# Altium footprint library MODULEs.PcbLib: 10 footprints (part 1 of 2)
Each footprint in its own frame and in the unit in brackets; x right, y up, seen from the top. Pads: shape width x height; smd on the part's side, far side on the other; paste and mask are expansions set on the pad; w line width, h text height; cw(c..) or ccw(c..) is an arc to the next point about the centre after c.
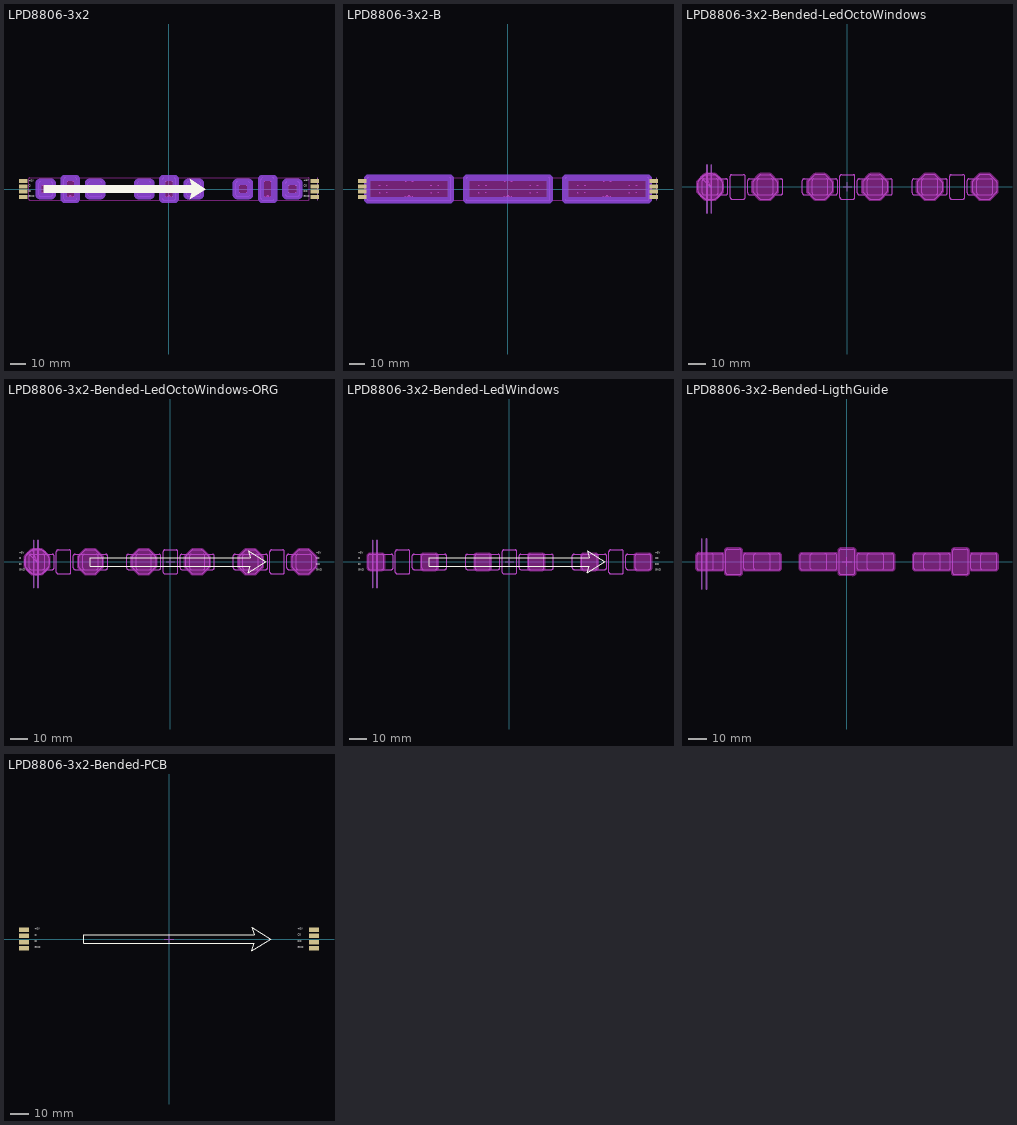
[diagram p0: the footprints below, top view; thin cyan lines are the x and y axes]

## LPD8806-3x2 [mm] "Digital Addressable RGB LED w/ PWM waterproof flexi strip - 3 modules of 2 LEDs"
pads (8):
  rect 5.5x2.5 smd: 1(-92.25,5) 2(-92.25,1.67) 3(-92.25,-1.67) 4(-92.25,-5) 5(92.25,-5) 6(92.25,-1.67) 7(92.25,1.67) 8(92.25,5)
Top Layer keep-out:
  lines w0.5: -88.8,-6.6 ccw(c-88.3,-6.6) -88.3,-7.1 88.3,-7.1 ccw(c88.3,-6.6) 88.8,-6.6 88.8,6.6 ccw(c88.3,6.6) 88.3,7.1 -88.3,7.1 ccw(c-88.3,6.6) -88.8,6.6 -88.8,-6.6
Bottom Layer keep-out:
  lines w4: -81.652,-4.498 -74.648,-4.498 ccw(c-74.648,-3.498) -73.648,-3.498 ; -81.652,4.498 -74.648,4.498 cw(c-74.648,3.498) -73.648,3.498 -73.648,-3.502 ; -81.648,-4.502 cw(c-81.648,-3.502) -82.648,-3.502 -82.648,3.502 cw(c-81.648,3.502) -81.648,4.502 ; -66.752,-5.998 ccw(c-65.752,-5.998) -65.752,-6.998 -59.246,-6.998 ; -66.75,6.001 cw(c-65.75,6.001) -65.75,7.001 -59.249,7.001 cw(c-59.249,6.001) -58.249,6.001 ; -66.746,-6.003 -66.746,6.005 ; -59.251,-7.002 ccw(c-59.251,-6.002) -58.251,-6.002 -58.251,6.004 ; -50.352,-4.498 -43.348,-4.498 ccw(c-43.348,-3.498) -42.348,-3.498 ; -50.352,4.498 -43.348,4.498 cw(c-43.348,3.498) -42.348,3.498 -42.348,-3.502 ; -50.348,-4.502 cw(c-50.348,-3.502) -51.348,-3.502 -51.348,3.502 cw(c-50.348,3.502) -50.348,4.502 ; -19.152,-4.498 -12.148,-4.498 ccw(c-12.148,-3.498) -11.148,-3.498 ; -19.152,4.498 -12.148,4.498 cw(c-12.148,3.498) -11.148,3.498 -11.148,-3.502 ; -19.148,-4.502 cw(c-19.148,-3.502) -20.148,-3.502 -20.148,3.502 cw(c-19.148,3.502) -19.148,4.502 ; -4.252,-5.997 ccw(c-3.252,-5.997) -3.252,-6.997 3.254,-6.997 ; -4.25,6.002 cw(c-3.25,6.002) -3.25,7.002 3.252,7.001 cw(c3.252,6.001) 4.252,6.001 ; -4.246,-6.003 -4.246,6.005 ; 3.249,-7.002 ccw(c3.249,-6.002) 4.249,-6.002 4.249,6.004 ; 12.148,-4.498 19.152,-4.498 ccw(c19.152,-3.498) 20.152,-3.498 ; 12.148,4.498 19.152,4.498 cw(c19.152,3.498) 20.152,3.498 20.152,-3.502 ; 12.152,-4.502 cw(c12.152,-3.502) 11.152,-3.502 11.152,3.502 cw(c12.152,3.502) 12.152,4.502 ; 43.348,-4.498 50.352,-4.498 ccw(c50.352,-3.498) 51.352,-3.498 ; 43.348,4.498 50.352,4.498 cw(c50.352,3.498) 51.352,3.498 51.352,-3.502 ; 43.352,-4.502 cw(c43.352,-3.502) 42.352,-3.502 42.352,3.502 cw(c43.352,3.502) 43.352,4.502 ; 58.248,-5.997 ccw(c59.248,-5.997) 59.248,-6.997 65.754,-6.997 ; 58.25,6.002 cw(c59.25,6.002) 59.25,7.002 65.752,7.001 cw(c65.752,6.001) 66.752,6.001 ; 58.254,-6.003 58.254,6.005 ; 65.749,-7.002 ccw(c65.749,-6.002) 66.749,-6.002 66.749,6.004 ; 74.648,-4.498 81.652,-4.498 ccw(c81.652,-3.498) 82.652,-3.498 ; 74.648,4.498 81.652,4.498 cw(c81.652,3.498) 82.652,3.498 82.652,-3.502 ; 74.652,-4.502 cw(c74.652,-3.502) 73.652,-3.502 73.652,3.502 cw(c74.652,3.502) 74.652,4.502
Top Overlay:
  region: -79.25,2.45 14.375,2.45 13,6.5 23.325,0 13,-6.5 14.375,-2.45 -79.25,-2.45
  text "GND" at 85.45,-5.55 h1.52
  text "DO" at 85.45,-2.22 h1.52
  text "CO" at 85.45,1.12 h1.52
  text "+5V" at 85.45,4.45 h1.52
  text "+5V" at -88.675,4.425 h1.52
  text "CI" at -88.675,1.095 h1.52
  text "DI" at -88.675,-2.245 h1.52
  text "GND" at -88.675,-5.575 h1.52
Keep-Out Layer:
  drawing of 9 lines, arcs and shapes, not listed
Outline:
  lines w0.1: -81.652,-4.498 -74.648,-4.498 ccw(c-74.648,-3.498) -73.648,-3.498 ; -81.652,4.498 -74.648,4.498 cw(c-74.648,3.498) -73.648,3.498 -73.648,-3.502 ; -81.648,-4.502 cw(c-81.648,-3.502) -82.648,-3.502 -82.648,3.502 cw(c-81.648,3.502) -81.648,4.502 ; -66.752,-5.998 ccw(c-65.752,-5.998) -65.752,-6.998 -59.246,-6.998 ; -66.75,6.001 cw(c-65.75,6.001) -65.75,7.001 -59.249,7.001 cw(c-59.249,6.001) -58.249,6.001 ; -66.746,-6.003 -66.746,6.005 ; -59.251,-7.002 ccw(c-59.251,-6.002) -58.251,-6.002 -58.251,6.004 ; -50.352,-4.498 -43.348,-4.498 ccw(c-43.348,-3.498) -42.348,-3.498 ; -50.352,4.498 -43.348,4.498 cw(c-43.348,3.498) -42.348,3.498 -42.348,-3.502 ; -50.348,-4.502 cw(c-50.348,-3.502) -51.348,-3.502 -51.348,3.502 cw(c-50.348,3.502) -50.348,4.502 ; -19.152,-4.498 -12.148,-4.498 ccw(c-12.148,-3.498) -11.148,-3.498 ; -19.152,4.498 -12.148,4.498 cw(c-12.148,3.498) -11.148,3.498 -11.148,-3.502 ; -19.148,-4.502 cw(c-19.148,-3.502) -20.148,-3.502 -20.148,3.502 cw(c-19.148,3.502) -19.148,4.502 ; -4.252,-5.997 ccw(c-3.252,-5.997) -3.252,-6.997 3.254,-6.997 ; -4.25,6.002 cw(c-3.25,6.002) -3.25,7.002 3.252,7.001 cw(c3.252,6.001) 4.252,6.001 ; -4.246,-6.003 -4.246,6.005 ; 3.249,-7.002 ccw(c3.249,-6.002) 4.249,-6.002 4.249,6.004 ; 12.148,-4.498 19.152,-4.498 ccw(c19.152,-3.498) 20.152,-3.498 ; 12.148,4.498 19.152,4.498 cw(c19.152,3.498) 20.152,3.498 20.152,-3.502 ; 12.152,-4.502 cw(c12.152,-3.502) 11.152,-3.502 11.152,3.502 cw(c12.152,3.502) 12.152,4.502 ; 43.348,-4.498 50.352,-4.498 ccw(c50.352,-3.498) 51.352,-3.498 ; 43.348,4.498 50.352,4.498 cw(c50.352,3.498) 51.352,3.498 51.352,-3.502 ; 43.352,-4.502 cw(c43.352,-3.502) 42.352,-3.502 42.352,3.502 cw(c43.352,3.502) 43.352,4.502 ; 58.248,-5.997 ccw(c59.248,-5.997) 59.248,-6.997 65.754,-6.997 ; 58.25,6.002 cw(c59.25,6.002) 59.25,7.002 65.752,7.001 cw(c65.752,6.001) 66.752,6.001 ; 58.254,-6.003 58.254,6.005 ; 65.749,-7.002 ccw(c65.749,-6.002) 66.749,-6.002 66.749,6.004 ; 74.648,-4.498 81.652,-4.498 ccw(c81.652,-3.498) 82.652,-3.498 ; 74.648,4.498 81.652,4.498 cw(c81.652,3.498) 82.652,3.498 82.652,-3.502 ; 74.652,-4.502 cw(c74.652,-3.502) 73.652,-3.502 73.652,3.502 cw(c74.652,3.502) 74.652,4.502
TopBody:
  lines w0.1: -63.6,-5 -63.199,-5 cw(c-62.5,-4.999) -61.801,-5 -61.4,-4.999 ; -1.1,-5 -0.7,-5 cw(c0,-5) 0.699,-5 1.1,-5 ; 61.4,-5 61.8,-5 cw(c62.5,-5) 63.199,-5 63.6,-5 ; 94.05,-7.05 94.05,7.05
  lines w0.2: -80.65,-1.95 -80.65,-2.499 -80.1,-2.499 ; -80.649,1.95 -80.65,2.499 -80.1,2.5 ; -76.2,-2.5 -76.2,-1.95 -75.651,-1.95 ; -76.2,2.499 -75.651,2.499 -75.65,1.95 ; -64.749,-4.45 -64.749,-4.999 -64.2,-5 ; -64.749,4.45 -64.749,4.999 -64.2,5 ; -60.8,-4.999 -60.251,-4.999 -60.25,-4.45 ; -60.8,4.999 -60.251,4.999 -60.25,4.45 ; -49.35,-1.95 -49.349,-2.499 -48.8,-2.499 ; -49.349,1.95 -49.349,2.5 -48.8,2.5 ; -44.9,-2.499 -44.9,-1.95 -44.351,-1.95 ; -44.9,2.5 -44.35,2.5 -44.35,1.95 ; -18.15,-1.95 -18.15,-2.5 -17.6,-2.5 ; -18.149,1.95 -18.15,2.499 -17.6,2.499 ; -13.7,-2.5 -13.7,-1.95 -13.151,-1.95 ; -13.7,2.499 -13.151,2.499 -13.15,1.95 ; -2.249,-4.45 -2.25,-5 -1.7,-5 ; -2.249,4.45 -2.25,4.999 -1.7,4.999 ; 1.7,-5 2.249,-5 2.25,-4.45 ; 1.7,4.999 2.249,4.999 2.25,4.45 ; 13.15,-1.95 13.151,-2.499 13.7,-2.499 ; 13.151,1.95 13.151,2.499 13.7,2.5 ; 17.6,-2.5 17.6,-1.95 18.149,-1.95 ; 17.6,2.499 18.15,2.499 18.15,1.95 ; 44.35,-1.95 44.35,-2.5 44.9,-2.5 ; 44.35,1.95 44.35,2.499 44.9,2.499 ; 48.8,-2.5 48.8,-1.95 49.349,-1.95 ; 48.8,2.499 49.349,2.499 49.349,1.95 ; 60.25,-4.45 60.25,-5 60.8,-5 ; 60.25,4.45 60.25,4.999 60.8,4.999 ; 64.2,-5 64.749,-5 64.749,-4.45 ; 64.2,4.999 64.749,4.999 64.749,4.45 ; 75.65,-1.95 75.65,-2.499 76.2,-2.499 ; 75.651,1.95 75.65,2.499 76.2,2.5 ; 80.1,-2.5 80.1,-1.95 80.649,-1.95 ; 80.1,2.499 80.649,2.499 80.65,1.95
3D body: height 0, standoff -1.6, extent 76.059,-2.09 80.24,2.09
3D body: height 0, standoff -1.59, extent 75.65,-2.499 80.649,2.499
3D body: height 0, standoff -1.59, extent 44.35,-2.5 49.349,2.499
3D body: height 0, standoff -1.6, extent 44.76,-2.09 48.94,2.09
3D body: height 0, standoff -1.6, extent 44.76,-2.09 48.94,2.09
3D body: height 0, standoff -1.59, extent 44.35,-2.5 49.349,2.499
3D body: height 0, standoff -1.6, extent -48.94,-2.09 -44.76,2.09
3D body: height 0, standoff -1.59, extent -49.349,-2.499 -44.35,2.5
3D body: height 0, standoff -1.59, extent -80.65,-2.499 -75.651,2.499
3D body: height 0, standoff -1.6, extent -80.24,-2.09 -76.06,2.09
3D body: height 0, standoff -1.6, extent -80.24,-2.09 -76.06,2.09
3D body: height 0, standoff -1.59, extent -80.65,-2.499 -75.651,2.499
3D body: height 0, standoff -1.8, extent -2.25,-5 2.249,4.999
3D body: height 0, standoff -1.59, extent -18.15,-2.5 -13.151,2.499
3D body: height 0, standoff -1.6, extent -17.74,-2.09 -13.56,2.09
3D body: height 0, standoff -1.6, extent -17.74,-2.09 -13.56,2.09
3D body: height 0, standoff -1.59, extent -18.15,-2.5 -13.151,2.499
3D body: height 0, standoff -1.59, extent 13.151,-2.499 18.15,2.499
3D body: height 0, standoff -1.2, extent -2.25,-5 2.249,4.999
3D body: height 0, standoff -1.8, extent 60.25,-5 64.749,4.999
3D body: height 0, standoff -1.2, extent 60.25,-5 64.749,4.999
3D body: height 0, standoff -1.2, extent -64.749,-4.999 -60.251,4.999
3D body: height 0, standoff -1.6, extent 13.56,-2.09 17.74,2.09
3D body: height 0.4, standoff 0.1, extent -94.05,-7.05 94.05,7.05
3D body: height 0, standoff -1.8, extent -64.749,-5 -60.251,4.999
3D body: height 0.1, standoff 0, extent -94.021,0.449 -89.579,2.881
3D body: height 0.1, standoff 0, extent -94.021,3.779 -89.579,6.211
3D body: height 0.1, standoff 0, extent -94.021,-2.891 -89.579,-0.459
3D body: height 0.1, standoff 0, extent -94.021,-6.221 -89.579,-3.789
3D body: height 0.5, standoff 0.4, extent -94.021,-6.221 -89.579,-3.789
3D body: height 0.5, standoff 0.4, extent -94.021,-2.891 -89.579,-0.459
3D body: height 0.5, standoff 0.4, extent -94.021,3.779 -89.579,6.211
3D body: height 0.5, standoff 0.4, extent -94.021,0.449 -89.579,2.881
3D body: height 0.1, standoff 0, extent 89.579,0.449 94.021,2.881
3D body: height 0.1, standoff 0, extent 89.579,3.779 94.021,6.211
3D body: height 0.1, standoff 0, extent 89.579,-2.891 94.021,-0.459
3D body: height 0.1, standoff 0, extent 89.579,-6.221 94.021,-3.789
3D body: height 0.5, standoff 0.4, extent 89.579,-6.221 94.021,-3.789
3D body: height 0.5, standoff 0.4, extent 89.579,-2.891 94.021,-0.459
3D body: height 0.5, standoff 0.4, extent 89.579,3.779 94.021,6.211
3D body: height 0.5, standoff 0.4, extent 89.579,0.449 94.021,2.881

## LPD8806-3x2-B [mm] "Digital Addressable RGB LED w/ PWM waterproof flexi strip - 3 modules of 2 LEDs"
pads (8):
  rect 5.5x2.5 smd: 1(-92.25,5) 2(-92.25,1.67) 3(-92.25,-1.67) 4(-92.25,-5) 5(92.25,-5) 6(92.25,-1.67) 7(92.25,1.67) 8(92.25,5)
Top Layer keep-out:
  lines w0.5: -88.8,-6.6 ccw(c-88.3,-6.6) -88.3,-7.1 88.3,-7.1 ccw(c88.3,-6.6) 88.8,-6.6 88.8,6.6 ccw(c88.3,6.6) 88.3,7.1 -88.3,7.1 ccw(c-88.3,6.6) -88.8,6.6 -88.8,-6.6
Bottom Layer keep-out:
  lines w4: 88.6,-7.1 ccw(c88.6,-6.6) 89.1,-6.6 ; 88.6,-7.1 ccw(c88.6,-6.6) 89.1,-6.6 ; 88.6,-7.1 36.8,-7.1 cw(c36.8,-6.6) 36.3,-6.6 36.3,6.6 cw(c36.8,6.6) 36.8,7.1 88.6,7.1 ; 88.6,7.1 cw(c88.6,6.6) 89.1,6.6 ; 88.6,7.1 cw(c88.6,6.6) 89.1,6.6 ; 89.1,-6.6 89.1,6.6 ; 89.1,-6.6 89.1,6.6 ; -89.1,-6.6 ccw(c-88.6,-6.6) -88.6,-7.1 -36.8,-7.1 ccw(c-36.8,-6.6) -36.3,-6.6 -36.3,6.6 ccw(c-36.8,6.6) -36.8,7.1 -88.6,7.1 ccw(c-88.6,6.6) -89.1,6.6 -89.1,-6.6 ; -26.4,-6.6 ccw(c-25.9,-6.6) -25.9,-7.1 25.9,-7.1 ccw(c25.9,-6.6) 26.4,-6.6 26.4,6.6 ccw(c25.9,6.6) 25.9,7.1 -25.9,7.1 ccw(c-25.9,6.6) -26.4,6.6 -26.4,-6.6
Bottom Overlay:
  text "+5V" at -87.3,5.4 h1.52
  text "CI" at -87.3,2.07 h1.52
  text "DI" at -87.3,-1.27 h1.52
  text "GND" at -87.3,-4.6 h1.52
  text "GND" at 84.5,-4.6 h1.52
  text "DO" at 84.5,-1.27 h1.52
  text "CO" at 84.5,2.07 h1.52
  text "+5V" at 84.5,5.4 h1.52
Keep-Out Layer:
  board cut-out: -25.9,-7.11 -26.095,-7.071 -26.26,-6.96 -26.371,-6.795 -26.41,-6.6 -26.4,-6.6 -26.41,6.6 -26.371,6.795 -26.26,6.96 -26.095,7.071 -25.9,7.11 -25.9,7.1 25.9,7.1 25.9,7.11 26.095,7.071 26.26,6.96 26.371,6.795 26.41,6.6 26.4,6.6 26.41,-6.6 26.371,-6.795 26.26,-6.961 26.095,-7.071 25.9,-7.11 25.9,-7.1
  board cut-out: 36.29,-6.6 36.329,-6.795 36.44,-6.96 36.605,-7.071 36.8,-7.11 36.8,-7.1 88.6,-7.1 88.6,-7.11 88.795,-7.071 88.96,-6.961 89.071,-6.795 89.11,-6.6 89.1,-6.6 89.11,6.6 89.071,6.795 88.96,6.96 88.795,7.071 88.6,7.11 88.6,7.1 36.8,7.11 36.605,7.071 36.44,6.96 36.329,6.795 36.29,6.6 36.3,6.6
  board cut-out: -88.6,-7.1 -36.8,-7.1 -36.8,-7.11 -36.605,-7.071 -36.44,-6.961 -36.329,-6.795 -36.29,-6.6 -36.3,-6.6 -36.29,6.6 -36.329,6.795 -36.44,6.96 -36.605,7.071 -36.8,7.11 -36.8,7.1 -88.6,7.11 -88.795,7.071 -88.96,6.96 -89.071,6.795 -89.11,6.6 -89.1,6.6 -89.11,-6.6 -89.071,-6.795 -88.96,-6.96 -88.795,-7.071 -88.6,-7.11
Outline:
  lines w0.1: 88.6,-7.1 ccw(c88.6,-6.6) 89.1,-6.6 ; 88.6,-7.1 ccw(c88.6,-6.6) 89.1,-6.6 ; 88.6,-7.1 36.8,-7.1 cw(c36.8,-6.6) 36.3,-6.6 36.3,6.6 cw(c36.8,6.6) 36.8,7.1 88.6,7.1 ; 88.6,7.1 cw(c88.6,6.6) 89.1,6.6 ; 88.6,7.1 cw(c88.6,6.6) 89.1,6.6 ; 89.1,-6.6 89.1,6.6 ; 89.1,-6.6 89.1,6.6 ; -89.1,-6.6 ccw(c-88.6,-6.6) -88.6,-7.1 -36.8,-7.1 ccw(c-36.8,-6.6) -36.3,-6.6 -36.3,6.6 ccw(c-36.8,6.6) -36.8,7.1 -88.6,7.1 ccw(c-88.6,6.6) -89.1,6.6 -89.1,-6.6 ; -26.4,-6.6 ccw(c-25.9,-6.6) -25.9,-7.1 25.9,-7.1 ccw(c25.9,-6.6) 26.4,-6.6 26.4,6.6 ccw(c25.9,6.6) 25.9,7.1 -25.9,7.1 ccw(c-25.9,6.6) -26.4,6.6 -26.4,-6.6
TopBody:
  lines w0.1: -63.8,-5 -63.399,-5 cw(c-62.7,-4.999) -62.001,-5 -61.6,-4.999 ; -1.1,-5 -0.7,-5 cw(c0,-5) 0.699,-5 1.1,-5 ; 61.6,-5 62,-5 cw(c62.7,-5) 63.399,-5 63.8,-5 ; 94.05,-7.05 94.05,7.05
  lines w0.2: -81.55,-1.95 -81.55,-2.5 -81,-2.5 ; -81.55,1.95 -81.55,2.499 -81,2.499 ; -77.1,-2.5 -77.1,-1.95 -76.551,-1.95 ; -77.1,2.499 -76.551,2.499 -76.551,1.95 ; -64.949,-4.45 -64.949,-4.999 -64.4,-5 ; -64.949,4.45 -64.949,4.999 -64.4,5 ; -61,-4.999 -60.451,-4.999 -60.45,-4.45 ; -61,4.999 -60.451,4.999 -60.45,4.45 ; -48.85,-1.95 -48.849,-2.5 -48.3,-2.5 ; -48.85,1.95 -48.849,2.499 -48.3,2.499 ; -44.4,-2.5 -44.4,-1.95 -43.851,-1.95 ; -44.4,2.499 -43.851,2.499 -43.851,1.95 ; -18.85,-1.95 -18.85,-2.5 -18.3,-2.5 ; -18.849,1.95 -18.85,2.499 -18.3,2.499 ; -14.4,-2.5 -14.4,-1.95 -13.851,-1.95 ; -14.4,2.499 -13.851,2.499 -13.85,1.95 ; -2.249,-4.45 -2.25,-5 -1.7,-5 ; -2.249,4.45 -2.25,4.999 -1.7,4.999 ; 1.7,-5 2.249,-5 2.25,-4.45 ; 1.7,4.999 2.249,4.999 2.25,4.45 ; 13.85,-1.95 13.851,-2.499 14.4,-2.499 ; 13.851,1.95 13.851,2.499 14.4,2.5 ; 18.3,-2.5 18.3,-1.95 18.849,-1.95 ; 18.3,2.499 18.85,2.499 18.85,1.95 ; 43.85,-1.95 43.85,-2.5 44.4,-2.5 ; 43.85,1.95 43.85,2.499 44.4,2.499 ; 48.3,-2.5 48.3,-1.95 48.849,-1.95 ; 48.3,2.499 48.849,2.499 48.849,1.95 ; 60.45,-4.45 60.45,-5 61,-5 ; 60.45,4.45 60.45,4.999 61,4.999 ; 64.4,-5 64.949,-5 64.949,-4.45 ; 64.4,4.999 64.949,4.999 64.949,4.45 ; 76.55,-1.95 76.551,-2.499 77.1,-2.499 ; 76.551,1.95 76.551,2.499 77.1,2.5 ; 81,-2.5 81,-1.95 81.549,-1.95 ; 81,2.499 81.549,2.499 81.55,1.95
3D body: height 0, standoff -1.8, extent -2.25,-5 2.249,4.999
3D body: height 0, standoff -1.59, extent -18.85,-2.5 -13.851,2.499
3D body: height 0, standoff -1.6, extent -18.44,-2.09 -14.26,2.09
3D body: height 0, standoff -1.6, extent -18.44,-2.09 -14.26,2.09
3D body: height 0, standoff -1.59, extent -18.85,-2.5 -13.851,2.499
3D body: height 0, standoff -1.59, extent 13.851,-2.499 18.85,2.499
3D body: height 0, standoff -1.2, extent -2.25,-5 2.249,4.999
3D body: height 0, standoff -1.8, extent 60.45,-5 64.949,4.999
3D body: height 0, standoff -1.59, extent 43.85,-2.5 48.849,2.499
3D body: height 0, standoff -1.6, extent 44.26,-2.09 48.44,2.09
3D body: height 0, standoff -1.6, extent 44.26,-2.09 48.44,2.09
3D body: height 0, standoff -1.59, extent 43.85,-2.5 48.849,2.499
3D body: height 0, standoff -1.59, extent 76.551,-2.499 81.549,2.499
3D body: height 0, standoff -1.2, extent 60.45,-5 64.949,4.999
3D body: height 0, standoff -1.2, extent -64.949,-4.999 -60.451,4.999
3D body: height 0, standoff -1.6, extent 76.96,-2.09 81.14,2.09
3D body: height 0, standoff -1.6, extent 14.26,-2.09 18.44,2.09
3D body: height 0, standoff -1.6, extent -48.44,-2.09 -44.26,2.09
3D body: height 0, standoff -1.59, extent -48.849,-2.499 -43.851,2.499
3D body: height 0, standoff -1.59, extent -81.55,-2.5 -76.551,2.499
3D body: height 0, standoff -1.6, extent -81.14,-2.09 -76.96,2.09
3D body: height 0, standoff -1.6, extent -81.14,-2.09 -76.96,2.09
3D body: height 0, standoff -1.59, extent -81.55,-2.5 -76.551,2.499
3D body: height 0.3, standoff 0, extent -94.05,-7.05 94.05,7.05
3D body: height 0, standoff -1.8, extent -64.949,-5 -60.451,4.999

## LPD8806-3x2-Bended-LedOctoWindows [mm] "Digital Addressable RGB LED w/ PWM waterproof flexi strip - 3 modules of 2 LEDs"
Keep-Out Layer:
  drawing of 54 lines, arcs and shapes, not listed
Keep-Out Layer:
  lines w2: -85.154,-2.488 -85.154,2.486 ; -84.862,3.194 -81.345,6.711 ; -84.861,-3.195 -81.344,-6.712 ; -80.638,7.005 -75.664,7.005 ; -80.636,-7.004 -75.662,-7.004 ; -74.956,6.712 -71.439,3.195 ; -74.955,-6.711 -71.438,-3.194 ; -71.146,-2.486 -71.146,2.488 ; -53.854,-2.488 -53.854,2.486 ; -53.562,3.194 -50.045,6.711 ; -53.561,-3.195 -50.044,-6.712 ; -49.338,7.005 -44.364,7.005 ; -49.336,-7.004 -44.362,-7.004 ; -43.656,6.712 -40.139,3.195 ; -43.655,-6.711 -40.138,-3.194 ; -39.846,-2.486 -39.846,2.488 ; -22.655,-2.484 -22.655,2.49 ; -22.362,3.198 -18.845,6.715 ; -22.361,-3.191 -18.844,-6.708 ; -18.138,7.009 -13.164,7.009 ; -18.136,-7 -13.162,-7 ; -12.456,6.717 -8.939,3.2 ; -12.455,-6.706 -8.938,-3.189 ; -8.646,-2.481 -8.646,2.493 ; 8.645,-2.488 8.645,2.486 ; 8.938,3.194 12.455,6.711 ; 8.939,-3.195 12.456,-6.712 ; 13.162,7.004 18.136,7.004 ; 13.164,-7.005 18.138,-7.005 ; 18.844,6.712 22.361,3.195 ; 18.845,-6.711 22.362,-3.194 ; 22.654,-2.486 22.654,2.488 ; 39.845,-2.484 39.845,2.49 ; 40.138,3.198 43.655,6.715 ; 40.139,-3.191 43.656,-6.708 ; 44.362,7.009 49.336,7.009 ; 44.364,-7 49.338,-7 ; 50.043,6.717 53.561,3.2 ; 50.045,-6.706 53.562,-3.189 ; 53.854,-2.481 53.854,2.493 ; 71.145,-2.484 71.145,2.49 ; 71.438,3.198 74.955,6.715 ; 71.439,-3.191 74.956,-6.708 ; 75.662,7.009 80.636,7.009 ; 75.664,-7 80.638,-7 ; 81.343,6.717 84.861,3.2 ; 81.345,-6.706 84.862,-3.189 ; 85.154,-2.481 85.154,2.493
Outline:
  lines w0.1: -85.154,-2.488 -85.154,2.486 cw(c-84.154,2.486) -84.862,3.193 ; -85.154,-2.488 ccw(c-84.154,-2.488) -84.861,-3.195 -81.344,-6.712 ccw(c-80.636,-6.004) -80.636,-7.004 -75.662,-7.004 ccw(c-75.662,-6.004) -74.955,-6.711 -71.438,-3.194 ; -84.862,3.194 -81.345,6.711 cw(c-80.638,6.004) -80.638,7.004 ; -80.638,7.005 -75.664,7.005 cw(c-75.664,6.005) -74.957,6.712 -71.439,3.195 cw(c-72.146,2.488) -71.146,2.488 ; -71.438,-3.193 ccw(c-72.146,-2.486) -71.146,-2.486 -71.146,2.488 ; -53.854,-2.488 -53.854,2.486 cw(c-52.854,2.486) -53.562,3.193 ; -53.854,-2.488 ccw(c-52.854,-2.488) -53.561,-3.195 -50.044,-6.712 ccw(c-49.336,-6.004) -49.336,-7.004 -44.362,-7.004 ccw(c-44.362,-6.004) -43.655,-6.711 -40.138,-3.194 ; -53.562,3.194 -50.045,6.711 cw(c-49.338,6.004) -49.338,7.004 -44.364,7.005 cw(c-44.364,6.005) -43.657,6.712 ; -43.656,6.712 -40.139,3.195 cw(c-40.846,2.488) -39.846,2.488 ; -40.138,-3.193 ccw(c-40.846,-2.486) -39.846,-2.486 -39.846,2.488 ; -18.844,-6.708 -22.361,-3.191 cw(c-21.654,-2.484) -22.654,-2.484 -22.655,2.49 cw(c-21.655,2.49) -22.362,3.197 -18.845,6.715 cw(c-18.138,6.008) -18.138,7.008 ; -18.843,-6.707 ccw(c-18.136,-6) -18.136,-7 -13.162,-7 ; -18.138,7.009 -13.164,7.009 cw(c-13.164,6.009) -12.457,6.716 ; -13.162,-6.999 ccw(c-13.162,-5.999) -12.455,-6.706 -8.938,-3.189 ccw(c-9.646,-2.481) -8.646,-2.481 -8.646,2.493 ccw(c-9.646,2.493) -8.939,3.2 -12.456,6.717 ; 8.645,-2.488 8.645,2.486 cw(c9.645,2.486) 8.938,3.193 ; 8.646,-2.488 ccw(c9.646,-2.488) 8.939,-3.195 12.456,-6.712 ; 8.938,3.194 12.455,6.711 cw(c13.162,6.004) 13.162,7.004 18.136,7.004 cw(c18.136,6.004) 18.843,6.711 22.361,3.195 cw(c21.654,2.488) 22.654,2.488 ; 12.457,-6.712 ccw(c13.164,-6.005) 13.164,-7.005 18.138,-7.005 ccw(c18.138,-6.004) 18.845,-6.711 22.362,-3.194 ; 22.362,-3.193 ccw(c21.654,-2.486) 22.654,-2.486 22.654,2.488 ; 39.845,-2.484 39.845,2.49 cw(c40.845,2.49) 40.138,3.197 ; 39.846,-2.484 ccw(c40.846,-2.484) 40.139,-3.191 43.656,-6.708 ; 40.138,3.198 43.655,6.715 cw(c44.362,6.008) 44.362,7.008 ; 43.657,-6.707 ccw(c44.364,-6) 44.364,-7 49.338,-7 ; 44.362,7.009 49.336,7.009 cw(c49.336,6.009) 50.043,6.716 ; 49.338,-6.999 ccw(c49.338,-5.999) 50.045,-6.706 53.562,-3.189 ; 50.043,6.717 53.561,3.2 cw(c52.853,2.493) 53.853,2.493 ; 53.561,-3.188 ccw(c52.854,-2.481) 53.854,-2.481 53.854,2.493 ; 71.145,-2.484 71.145,2.49 cw(c72.145,2.49) 71.438,3.197 ; 71.146,-2.484 ccw(c72.146,-2.484) 71.439,-3.191 74.956,-6.708 ; 71.438,3.198 74.955,6.715 cw(c75.662,6.008) 75.662,7.008 ; 74.957,-6.707 ccw(c75.664,-6) 75.664,-7 80.638,-7 ; 75.662,7.009 80.636,7.009 cw(c80.636,6.009) 81.343,6.716 ; 80.638,-6.999 ccw(c80.638,-5.999) 81.345,-6.706 84.862,-3.189 ; 81.343,6.717 84.861,3.2 cw(c84.153,2.493) 85.153,2.493 ; 84.861,-3.188 ccw(c84.154,-2.481) 85.154,-2.481 85.154,2.493
M-CAD keep-out:
  lines w0.1: -81.652,-4.498 -69.148,-4.498 ; -81.652,4.498 -69.148,4.498 ; -81.648,-4.502 cw(c-81.648,-3.502) -82.648,-3.502 -82.648,3.502 cw(c-81.648,3.502) -81.648,4.502 ; -69.148,-4.502 ccw(c-69.148,-3.502) -68.148,-3.502 -68.148,3.502 ; -69.148,4.493 cw(c-69.148,3.493) -68.148,3.493 ; -66.752,-5.998 ccw(c-65.752,-5.998) -65.752,-6.998 -59.246,-6.998 ; -66.75,6.001 cw(c-65.75,6.001) -65.75,7.001 -59.249,7.001 cw(c-59.249,6.001) -58.249,6.001 ; -66.746,-6.003 -66.746,6.005 ; -59.251,-7.002 ccw(c-59.251,-6.002) -58.251,-6.002 -58.251,6.004 ; -56.852,3.493 cw(c-55.852,3.493) -55.852,4.493 -37.848,4.493 cw(c-37.848,3.493) -36.848,3.493 ; -56.852,3.502 -56.852,-3.502 ccw(c-55.852,-3.502) -55.852,-4.502 -37.848,-4.502 ccw(c-37.848,-3.502) -36.848,-3.502 -36.848,3.502 ; -25.652,3.493 cw(c-24.652,3.493) -24.652,4.493 -6.648,4.493 cw(c-6.648,3.493) -5.648,3.493 ; -25.652,3.502 -25.652,-3.502 ccw(c-24.652,-3.502) -24.652,-4.502 -6.648,-4.502 ccw(c-6.648,-3.502) -5.648,-3.502 -5.648,3.502 ; -4.252,-5.997 ccw(c-3.252,-5.997) -3.252,-6.997 3.254,-6.997 ; -4.25,6.002 cw(c-3.25,6.002) -3.25,7.002 3.252,7.001 cw(c3.252,6.001) 4.252,6.001 ; -4.246,-6.003 -4.246,6.005 ; 3.249,-7.002 ccw(c3.249,-6.002) 4.249,-6.002 4.249,6.004 ; 5.648,3.493 cw(c6.648,3.493) 6.648,4.493 24.652,4.493 cw(c24.652,3.493) 25.652,3.493 ; 5.648,3.502 5.648,-3.502 ccw(c6.648,-3.502) 6.648,-4.502 24.652,-4.502 ccw(c24.652,-3.502) 25.652,-3.502 25.652,3.502 ; 36.848,3.493 cw(c37.848,3.493) 37.848,4.493 ; 36.848,3.502 36.848,-3.502 ccw(c37.848,-3.502) 37.848,-4.502 ; 37.848,-4.498 55.857,-4.498 ccw(c55.857,-3.498) 56.857,-3.498 56.857,3.507 ; 37.848,4.498 55.857,4.498 cw(c55.857,3.498) 56.857,3.498 ; 58.248,-5.997 ccw(c59.248,-5.997) 59.248,-6.997 65.754,-6.997 ; 58.25,6.002 cw(c59.25,6.002) 59.25,7.002 65.752,7.001 cw(c65.752,6.001) 66.752,6.001 ; 58.254,-6.003 58.254,6.005 ; 65.749,-7.002 ccw(c65.749,-6.002) 66.749,-6.002 66.749,6.004 ; 68.148,3.493 cw(c69.148,3.493) 69.148,4.493 ; 68.148,3.502 68.148,-3.502 ccw(c69.148,-3.502) 69.148,-4.502 ; 69.148,-4.498 81.652,-4.498 ccw(c81.652,-3.498) 82.652,-3.498 ; 69.148,4.498 81.652,4.498 cw(c81.652,3.498) 82.652,3.498 82.652,-3.502
Notes:
  circle w0.1: c-78.15,0 r7.5
  lines w0.2: -83.453,5.303 -78.15,0 ; -81.02,6.929 -78.15,0 ; -77.475,0 -78.15,0
  lines w1: -80,-15 -80,12.5 ; -77.5,-15 -77.5,12.5
Notes keep-out:
  lines w0.1: -81.652,-4.498 -74.648,-4.498 ; -81.652,4.498 -74.648,4.498 ; -81.648,-4.502 cw(c-81.648,-3.502) -82.648,-3.502 -82.648,3.502 cw(c-81.648,3.502) -81.648,4.502 ; -74.648,-4.502 ccw(c-74.648,-3.502) -73.648,-3.502 -73.648,3.498 ; -74.648,4.493 cw(c-74.648,3.493) -73.648,3.493 ; -50.348,-4.502 cw(c-50.348,-3.502) -51.348,-3.502 -51.348,3.502 cw(c-50.348,3.502) -50.348,4.502 -43.348,4.502 ; -50.348,-4.493 -43.348,-4.493 ; -43.348,-4.498 ccw(c-43.348,-3.498) -42.348,-3.498 ; -43.348,4.498 cw(c-43.348,3.498) -42.348,3.498 -42.348,-3.502 ; -19.148,-4.502 cw(c-19.148,-3.502) -20.148,-3.502 -20.148,3.502 cw(c-19.148,3.502) -19.148,4.502 -12.148,4.502 ; -19.148,-4.493 -12.148,-4.493 ; -12.148,-4.498 ccw(c-12.148,-3.498) -11.148,-3.498 ; -12.148,4.498 cw(c-12.148,3.498) -11.148,3.498 -11.148,-3.502 ; 12.152,-4.502 cw(c12.152,-3.502) 11.152,-3.502 11.152,3.502 cw(c12.152,3.502) 12.152,4.502 19.152,4.502 ; 12.152,-4.493 19.152,-4.493 ; 19.152,-4.498 ccw(c19.152,-3.498) 20.152,-3.498 ; 19.152,4.498 cw(c19.152,3.498) 20.152,3.498 20.152,-3.502 ; 43.352,-4.502 cw(c43.352,-3.502) 42.352,-3.502 42.352,3.502 cw(c43.352,3.502) 43.352,4.502 ; 43.352,-4.498 50.352,-4.498 ccw(c50.352,-3.498) 51.352,-3.498 ; 43.352,4.498 50.352,4.498 cw(c50.352,3.498) 51.352,3.498 51.352,-3.502 ; 74.652,-4.502 cw(c74.652,-3.502) 73.652,-3.502 73.652,3.502 cw(c74.652,3.502) 74.652,4.502 ; 74.652,-4.498 81.652,-4.498 ccw(c81.652,-3.498) 82.652,-3.498 ; 74.652,4.498 81.652,4.498 cw(c81.652,3.498) 82.652,3.498 82.652,-3.502
TopCourtyard:
  lines w0.1: -2.5,0 0,0 ; 0,-2.5 0,0 ; 0,2.5 0,0 ; 2.5,0 0,0
3D body: height 12.12, standoff 3.1, extent -84.65,-7.05 84.65,7.05

## LPD8806-3x2-Bended-LedOctoWindows-ORG [mm] "Digital Addressable RGB LED w/ PWM waterproof flexi strip - 3 modules of 2 LEDs"
Top Overlay:
  lines w0.2: -46.812,-2.45 -46.812,2.45 46.812,2.45 45.438,6.5 55.762,0 45.438,-6.5 46.812,-2.45 -46.812,-2.45
  text "GND" at 85.45,-5.55 h1.52
  text "DO" at 85.45,-2.22 h1.52
  text "CO" at 85.45,1.12 h1.52
  text "+5V" at 85.45,4.45 h1.52
  text "+5V" at -88.675,4.425 h1.52
  text "CI" at -88.675,1.095 h1.52
  text "DI" at -88.675,-2.245 h1.52
  text "GND" at -88.675,-5.575 h1.52
Keep-Out Layer:
  drawing of 54 lines, arcs and shapes, not listed
Keep-Out Layer:
  lines w2: -85.154,-2.488 -85.154,2.486 ; -84.862,3.194 -81.345,6.711 ; -84.861,-3.195 -81.344,-6.712 ; -80.638,7.005 -75.664,7.005 ; -80.636,-7.004 -75.662,-7.004 ; -74.956,6.712 -71.439,3.195 ; -74.955,-6.711 -71.438,-3.194 ; -71.146,-2.486 -71.146,2.488 ; -53.854,-2.488 -53.854,2.486 ; -53.562,3.194 -50.045,6.711 ; -53.561,-3.195 -50.044,-6.712 ; -49.338,7.005 -44.364,7.005 ; -49.336,-7.004 -44.362,-7.004 ; -43.656,6.712 -40.139,3.195 ; -43.655,-6.711 -40.138,-3.194 ; -39.846,-2.486 -39.846,2.488 ; -22.655,-2.484 -22.655,2.49 ; -22.362,3.198 -18.845,6.715 ; -22.361,-3.191 -18.844,-6.708 ; -18.138,7.009 -13.164,7.009 ; -18.136,-7 -13.162,-7 ; -12.456,6.717 -8.939,3.2 ; -12.455,-6.706 -8.938,-3.189 ; -8.646,-2.481 -8.646,2.493 ; 8.645,-2.488 8.645,2.486 ; 8.938,3.194 12.455,6.711 ; 8.939,-3.195 12.456,-6.712 ; 13.162,7.004 18.136,7.004 ; 13.164,-7.005 18.138,-7.005 ; 18.844,6.712 22.361,3.195 ; 18.845,-6.711 22.362,-3.194 ; 22.654,-2.486 22.654,2.488 ; 39.845,-2.484 39.845,2.49 ; 40.138,3.198 43.655,6.715 ; 40.139,-3.191 43.656,-6.708 ; 44.362,7.009 49.336,7.009 ; 44.364,-7 49.338,-7 ; 50.043,6.717 53.561,3.2 ; 50.045,-6.706 53.562,-3.189 ; 53.854,-2.481 53.854,2.493 ; 71.145,-2.484 71.145,2.49 ; 71.438,3.198 74.955,6.715 ; 71.439,-3.191 74.956,-6.708 ; 75.662,7.009 80.636,7.009 ; 75.664,-7 80.638,-7 ; 81.343,6.717 84.861,3.2 ; 81.345,-6.706 84.862,-3.189 ; 85.154,-2.481 85.154,2.493
Outline:
  lines w0.1: -85.154,-2.488 -85.154,2.486 cw(c-84.154,2.486) -84.862,3.193 ; -85.154,-2.488 ccw(c-84.154,-2.488) -84.861,-3.195 -81.344,-6.712 ccw(c-80.636,-6.004) -80.636,-7.004 -75.662,-7.004 ccw(c-75.662,-6.004) -74.955,-6.711 -71.438,-3.194 ; -84.862,3.194 -81.345,6.711 cw(c-80.638,6.004) -80.638,7.004 ; -80.638,7.005 -75.664,7.005 cw(c-75.664,6.005) -74.957,6.712 -71.439,3.195 cw(c-72.146,2.488) -71.146,2.488 ; -71.438,-3.193 ccw(c-72.146,-2.486) -71.146,-2.486 -71.146,2.488 ; -53.854,-2.488 -53.854,2.486 cw(c-52.854,2.486) -53.562,3.193 ; -53.854,-2.488 ccw(c-52.854,-2.488) -53.561,-3.195 -50.044,-6.712 ccw(c-49.336,-6.004) -49.336,-7.004 -44.362,-7.004 ccw(c-44.362,-6.004) -43.655,-6.711 -40.138,-3.194 ; -53.562,3.194 -50.045,6.711 cw(c-49.338,6.004) -49.338,7.004 -44.364,7.005 cw(c-44.364,6.005) -43.657,6.712 ; -43.656,6.712 -40.139,3.195 cw(c-40.846,2.488) -39.846,2.488 ; -40.138,-3.193 ccw(c-40.846,-2.486) -39.846,-2.486 -39.846,2.488 ; -18.844,-6.708 -22.361,-3.191 cw(c-21.654,-2.484) -22.654,-2.484 -22.655,2.49 cw(c-21.655,2.49) -22.362,3.197 -18.845,6.715 cw(c-18.138,6.008) -18.138,7.008 ; -18.843,-6.707 ccw(c-18.136,-6) -18.136,-7 -13.162,-7 ; -18.138,7.009 -13.164,7.009 cw(c-13.164,6.009) -12.457,6.716 ; -13.162,-6.999 ccw(c-13.162,-5.999) -12.455,-6.706 -8.938,-3.189 ccw(c-9.646,-2.481) -8.646,-2.481 -8.646,2.493 ccw(c-9.646,2.493) -8.939,3.2 -12.456,6.717 ; 8.645,-2.488 8.645,2.486 cw(c9.645,2.486) 8.938,3.193 ; 8.646,-2.488 ccw(c9.646,-2.488) 8.939,-3.195 12.456,-6.712 ; 8.938,3.194 12.455,6.711 cw(c13.162,6.004) 13.162,7.004 18.136,7.004 cw(c18.136,6.004) 18.843,6.711 22.361,3.195 cw(c21.654,2.488) 22.654,2.488 ; 12.457,-6.712 ccw(c13.164,-6.005) 13.164,-7.005 18.138,-7.005 ccw(c18.138,-6.004) 18.845,-6.711 22.362,-3.194 ; 22.362,-3.193 ccw(c21.654,-2.486) 22.654,-2.486 22.654,2.488 ; 39.845,-2.484 39.845,2.49 cw(c40.845,2.49) 40.138,3.197 ; 39.846,-2.484 ccw(c40.846,-2.484) 40.139,-3.191 43.656,-6.708 ; 40.138,3.198 43.655,6.715 cw(c44.362,6.008) 44.362,7.008 ; 43.657,-6.707 ccw(c44.364,-6) 44.364,-7 49.338,-7 ; 44.362,7.009 49.336,7.009 cw(c49.336,6.009) 50.043,6.716 ; 49.338,-6.999 ccw(c49.338,-5.999) 50.045,-6.706 53.562,-3.189 ; 50.043,6.717 53.561,3.2 cw(c52.853,2.493) 53.853,2.493 ; 53.561,-3.188 ccw(c52.854,-2.481) 53.854,-2.481 53.854,2.493 ; 71.145,-2.484 71.145,2.49 cw(c72.145,2.49) 71.438,3.197 ; 71.146,-2.484 ccw(c72.146,-2.484) 71.439,-3.191 74.956,-6.708 ; 71.438,3.198 74.955,6.715 cw(c75.662,6.008) 75.662,7.008 ; 74.957,-6.707 ccw(c75.664,-6) 75.664,-7 80.638,-7 ; 75.662,7.009 80.636,7.009 cw(c80.636,6.009) 81.343,6.716 ; 80.638,-6.999 ccw(c80.638,-5.999) 81.345,-6.706 84.862,-3.189 ; 81.343,6.717 84.861,3.2 cw(c84.153,2.493) 85.153,2.493 ; 84.861,-3.188 ccw(c84.154,-2.481) 85.154,-2.481 85.154,2.493
M-CAD keep-out:
  lines w0.1: -81.652,-4.498 -69.148,-4.498 ; -81.652,4.498 -69.148,4.498 ; -81.648,-4.502 cw(c-81.648,-3.502) -82.648,-3.502 -82.648,3.502 cw(c-81.648,3.502) -81.648,4.502 ; -69.148,-4.502 ccw(c-69.148,-3.502) -68.148,-3.502 -68.148,3.502 ; -69.148,4.493 cw(c-69.148,3.493) -68.148,3.493 ; -66.752,-5.998 ccw(c-65.752,-5.998) -65.752,-6.998 -59.246,-6.998 ; -66.75,6.001 cw(c-65.75,6.001) -65.75,7.001 -59.249,7.001 cw(c-59.249,6.001) -58.249,6.001 ; -66.746,-6.003 -66.746,6.005 ; -59.251,-7.002 ccw(c-59.251,-6.002) -58.251,-6.002 -58.251,6.004 ; -56.852,3.493 cw(c-55.852,3.493) -55.852,4.493 -37.848,4.493 cw(c-37.848,3.493) -36.848,3.493 ; -56.852,3.502 -56.852,-3.502 ccw(c-55.852,-3.502) -55.852,-4.502 -37.848,-4.502 ccw(c-37.848,-3.502) -36.848,-3.502 -36.848,3.502 ; -25.652,3.493 cw(c-24.652,3.493) -24.652,4.493 -6.648,4.493 cw(c-6.648,3.493) -5.648,3.493 ; -25.652,3.502 -25.652,-3.502 ccw(c-24.652,-3.502) -24.652,-4.502 -6.648,-4.502 ccw(c-6.648,-3.502) -5.648,-3.502 -5.648,3.502 ; -4.252,-5.997 ccw(c-3.252,-5.997) -3.252,-6.997 3.254,-6.997 ; -4.25,6.002 cw(c-3.25,6.002) -3.25,7.002 3.252,7.001 cw(c3.252,6.001) 4.252,6.001 ; -4.246,-6.003 -4.246,6.005 ; 3.249,-7.002 ccw(c3.249,-6.002) 4.249,-6.002 4.249,6.004 ; 5.648,3.493 cw(c6.648,3.493) 6.648,4.493 24.652,4.493 cw(c24.652,3.493) 25.652,3.493 ; 5.648,3.502 5.648,-3.502 ccw(c6.648,-3.502) 6.648,-4.502 24.652,-4.502 ccw(c24.652,-3.502) 25.652,-3.502 25.652,3.502 ; 36.848,3.493 cw(c37.848,3.493) 37.848,4.493 ; 36.848,3.502 36.848,-3.502 ccw(c37.848,-3.502) 37.848,-4.502 ; 37.848,-4.498 55.857,-4.498 ccw(c55.857,-3.498) 56.857,-3.498 56.857,3.507 ; 37.848,4.498 55.857,4.498 cw(c55.857,3.498) 56.857,3.498 ; 58.248,-5.997 ccw(c59.248,-5.997) 59.248,-6.997 65.754,-6.997 ; 58.25,6.002 cw(c59.25,6.002) 59.25,7.002 65.752,7.001 cw(c65.752,6.001) 66.752,6.001 ; 58.254,-6.003 58.254,6.005 ; 65.749,-7.002 ccw(c65.749,-6.002) 66.749,-6.002 66.749,6.004 ; 68.148,3.493 cw(c69.148,3.493) 69.148,4.493 ; 68.148,3.502 68.148,-3.502 ccw(c69.148,-3.502) 69.148,-4.502 ; 69.148,-4.498 81.652,-4.498 ccw(c81.652,-3.498) 82.652,-3.498 ; 69.148,4.498 81.652,4.498 cw(c81.652,3.498) 82.652,3.498 82.652,-3.502
Notes:
  circle w0.1: c-78.15,0 r7.5
  lines w0.2: -83.453,5.303 -78.15,0 ; -81.02,6.929 -78.15,0 ; -77.475,0 -78.15,0
  lines w1: -80,-15 -80,12.5 ; -77.5,-15 -77.5,12.5
Notes keep-out:
  lines w0.1: -81.652,-4.498 -74.648,-4.498 ; -81.652,4.498 -74.648,4.498 ; -81.648,-4.502 cw(c-81.648,-3.502) -82.648,-3.502 -82.648,3.502 cw(c-81.648,3.502) -81.648,4.502 ; -74.648,-4.502 ccw(c-74.648,-3.502) -73.648,-3.502 -73.648,3.498 ; -74.648,4.493 cw(c-74.648,3.493) -73.648,3.493 ; -50.348,-4.502 cw(c-50.348,-3.502) -51.348,-3.502 -51.348,3.502 cw(c-50.348,3.502) -50.348,4.502 -43.348,4.502 ; -50.348,-4.493 -43.348,-4.493 ; -43.348,-4.498 ccw(c-43.348,-3.498) -42.348,-3.498 ; -43.348,4.498 cw(c-43.348,3.498) -42.348,3.498 -42.348,-3.502 ; -19.148,-4.502 cw(c-19.148,-3.502) -20.148,-3.502 -20.148,3.502 cw(c-19.148,3.502) -19.148,4.502 -12.148,4.502 ; -19.148,-4.493 -12.148,-4.493 ; -12.148,-4.498 ccw(c-12.148,-3.498) -11.148,-3.498 ; -12.148,4.498 cw(c-12.148,3.498) -11.148,3.498 -11.148,-3.502 ; 12.152,-4.502 cw(c12.152,-3.502) 11.152,-3.502 11.152,3.502 cw(c12.152,3.502) 12.152,4.502 19.152,4.502 ; 12.152,-4.493 19.152,-4.493 ; 19.152,-4.498 ccw(c19.152,-3.498) 20.152,-3.498 ; 19.152,4.498 cw(c19.152,3.498) 20.152,3.498 20.152,-3.502 ; 43.352,-4.502 cw(c43.352,-3.502) 42.352,-3.502 42.352,3.502 cw(c43.352,3.502) 43.352,4.502 ; 43.352,-4.498 50.352,-4.498 ccw(c50.352,-3.498) 51.352,-3.498 ; 43.352,4.498 50.352,4.498 cw(c50.352,3.498) 51.352,3.498 51.352,-3.502 ; 74.652,-4.502 cw(c74.652,-3.502) 73.652,-3.502 73.652,3.502 cw(c74.652,3.502) 74.652,4.502 ; 74.652,-4.498 81.652,-4.498 ccw(c81.652,-3.498) 82.652,-3.498 ; 74.652,4.498 81.652,4.498 cw(c81.652,3.498) 82.652,3.498 82.652,-3.502
TopCourtyard:
  lines w0.1: -2.5,0 0,0 ; 0,-2.5 0,0 ; 0,2.5 0,0 ; 2.5,0 0,0
3D body: height 12.12, standoff 3.1, extent -84.65,-7.05 84.65,7.05

## LPD8806-3x2-Bended-LedWindows [mm] "Digital Addressable RGB LED w/ PWM waterproof flexi strip - 3 modules of 2 LEDs"
Top Overlay:
  lines w0.2: -46.812,-2.45 -46.812,2.45 46.812,2.45 45.438,6.5 55.762,0 45.438,-6.5 46.812,-2.45 -46.812,-2.45
  text "GND" at 85.45,-5.55 h1.52
  text "DO" at 85.45,-2.22 h1.52
  text "CO" at 85.45,1.12 h1.52
  text "+5V" at 85.45,4.45 h1.52
  text "+5V" at -88.675,4.425 h1.52
  text "CI" at -88.675,1.095 h1.52
  text "DI" at -88.675,-2.245 h1.52
  text "GND" at -88.675,-5.575 h1.52
Keep-Out Layer:
  drawing of 6 lines, arcs and shapes, not listed
Outline keep-out:
  lines w0.1: -81.652,-4.498 -74.648,-4.498 ; -81.652,4.498 -74.648,4.498 ; -81.648,-4.502 cw(c-81.648,-3.502) -82.648,-3.502 -82.648,3.502 cw(c-81.648,3.502) -81.648,4.502 ; -74.648,-4.502 ccw(c-74.648,-3.502) -73.648,-3.502 -73.648,3.498 ; -74.648,4.493 cw(c-74.648,3.493) -73.648,3.493 ; -50.348,-4.502 cw(c-50.348,-3.502) -51.348,-3.502 -51.348,3.502 cw(c-50.348,3.502) -50.348,4.502 -43.348,4.502 ; -50.348,-4.493 -43.348,-4.493 ; -43.348,-4.498 ccw(c-43.348,-3.498) -42.348,-3.498 ; -43.348,4.498 cw(c-43.348,3.498) -42.348,3.498 -42.348,-3.502 ; -19.148,-4.502 cw(c-19.148,-3.502) -20.148,-3.502 -20.148,3.502 cw(c-19.148,3.502) -19.148,4.502 -12.148,4.502 ; -19.148,-4.493 -12.148,-4.493 ; -12.148,-4.498 ccw(c-12.148,-3.498) -11.148,-3.498 ; -12.148,4.498 cw(c-12.148,3.498) -11.148,3.498 -11.148,-3.502 ; 12.152,-4.502 cw(c12.152,-3.502) 11.152,-3.502 11.152,3.502 cw(c12.152,3.502) 12.152,4.502 19.152,4.502 ; 12.152,-4.493 19.152,-4.493 ; 19.152,-4.498 ccw(c19.152,-3.498) 20.152,-3.498 ; 19.152,4.498 cw(c19.152,3.498) 20.152,3.498 20.152,-3.502 ; 43.352,-4.502 cw(c43.352,-3.502) 42.352,-3.502 42.352,3.502 cw(c43.352,3.502) 43.352,4.502 ; 43.352,-4.498 50.352,-4.498 ccw(c50.352,-3.498) 51.352,-3.498 ; 43.352,4.498 50.352,4.498 cw(c50.352,3.498) 51.352,3.498 51.352,-3.502 ; 74.652,-4.502 cw(c74.652,-3.502) 73.652,-3.502 73.652,3.502 cw(c74.652,3.502) 74.652,4.502 ; 74.652,-4.498 81.652,-4.498 ccw(c81.652,-3.498) 82.652,-3.498 ; 74.652,4.498 81.652,4.498 cw(c81.652,3.498) 82.652,3.498 82.652,-3.502
M-CAD keep-out:
  lines w0.1: -81.652,-4.498 -69.148,-4.498 ; -81.652,4.498 -69.148,4.498 ; -81.648,-4.502 cw(c-81.648,-3.502) -82.648,-3.502 -82.648,3.502 cw(c-81.648,3.502) -81.648,4.502 ; -69.148,-4.502 ccw(c-69.148,-3.502) -68.148,-3.502 -68.148,3.502 ; -69.148,4.493 cw(c-69.148,3.493) -68.148,3.493 ; -66.752,-5.998 ccw(c-65.752,-5.998) -65.752,-6.998 -59.246,-6.998 ; -66.75,6.001 cw(c-65.75,6.001) -65.75,7.001 -59.249,7.001 cw(c-59.249,6.001) -58.249,6.001 ; -66.746,-6.003 -66.746,6.005 ; -59.251,-7.002 ccw(c-59.251,-6.002) -58.251,-6.002 -58.251,6.004 ; -56.852,3.493 cw(c-55.852,3.493) -55.852,4.493 -37.848,4.493 cw(c-37.848,3.493) -36.848,3.493 ; -56.852,3.502 -56.852,-3.502 ccw(c-55.852,-3.502) -55.852,-4.502 -37.848,-4.502 ccw(c-37.848,-3.502) -36.848,-3.502 -36.848,3.502 ; -25.652,3.493 cw(c-24.652,3.493) -24.652,4.493 -6.648,4.493 cw(c-6.648,3.493) -5.648,3.493 ; -25.652,3.502 -25.652,-3.502 ccw(c-24.652,-3.502) -24.652,-4.502 -6.648,-4.502 ccw(c-6.648,-3.502) -5.648,-3.502 -5.648,3.502 ; -4.252,-5.997 ccw(c-3.252,-5.997) -3.252,-6.997 3.254,-6.997 ; -4.25,6.002 cw(c-3.25,6.002) -3.25,7.002 3.252,7.001 cw(c3.252,6.001) 4.252,6.001 ; -4.246,-6.003 -4.246,6.005 ; 3.249,-7.002 ccw(c3.249,-6.002) 4.249,-6.002 4.249,6.004 ; 5.648,3.493 cw(c6.648,3.493) 6.648,4.493 24.652,4.493 cw(c24.652,3.493) 25.652,3.493 ; 5.648,3.502 5.648,-3.502 ccw(c6.648,-3.502) 6.648,-4.502 24.652,-4.502 ccw(c24.652,-3.502) 25.652,-3.502 25.652,3.502 ; 36.848,3.493 cw(c37.848,3.493) 37.848,4.493 ; 36.848,3.502 36.848,-3.502 ccw(c37.848,-3.502) 37.848,-4.502 ; 37.848,-4.498 55.857,-4.498 ccw(c55.857,-3.498) 56.857,-3.498 56.857,3.507 ; 37.848,4.498 55.857,4.498 cw(c55.857,3.498) 56.857,3.498 ; 58.248,-5.997 ccw(c59.248,-5.997) 59.248,-6.997 65.754,-6.997 ; 58.25,6.002 cw(c59.25,6.002) 59.25,7.002 65.752,7.001 cw(c65.752,6.001) 66.752,6.001 ; 58.254,-6.003 58.254,6.005 ; 65.749,-7.002 ccw(c65.749,-6.002) 66.749,-6.002 66.749,6.004 ; 68.148,3.493 cw(c69.148,3.493) 69.148,4.493 ; 68.148,3.502 68.148,-3.502 ccw(c69.148,-3.502) 69.148,-4.502 ; 69.148,-4.498 81.652,-4.498 ccw(c81.652,-3.498) 82.652,-3.498 ; 69.148,4.498 81.652,4.498 cw(c81.652,3.498) 82.652,3.498 82.652,-3.502
Notes:
  lines w1: -80,-15 -80,12.5 ; -77.5,-15 -77.5,12.5
TopCourtyard:
  lines w0.1: -2.5,0 0,0 ; 0,-2.5 0,0 ; 0,2.5 0,0 ; 2.5,0 0,0
Multi-Layer keep-out:
  lines w2: -81.652,-4.498 -74.648,-4.498 ccw(c-74.648,-3.498) -73.648,-3.498 ; -81.652,4.498 -74.648,4.498 cw(c-74.648,3.498) -73.648,3.498 -73.648,-3.502 ; -81.648,-4.502 cw(c-81.648,-3.502) -82.648,-3.502 -82.648,3.502 cw(c-81.648,3.502) -81.648,4.502 ; -50.352,-4.498 -43.348,-4.498 ccw(c-43.348,-3.498) -42.348,-3.498 ; -50.352,4.498 -43.348,4.498 cw(c-43.348,3.498) -42.348,3.498 -42.348,-3.502 ; -50.348,-4.502 cw(c-50.348,-3.502) -51.348,-3.502 -51.348,3.502 cw(c-50.348,3.502) -50.348,4.502 ; -19.152,-4.498 -12.148,-4.498 ccw(c-12.148,-3.498) -11.148,-3.498 ; -19.152,4.498 -12.148,4.498 cw(c-12.148,3.498) -11.148,3.498 -11.148,-3.502 ; -19.148,-4.502 cw(c-19.148,-3.502) -20.148,-3.502 -20.148,3.502 cw(c-19.148,3.502) -19.148,4.502 ; 12.148,-4.498 19.152,-4.498 ccw(c19.152,-3.498) 20.152,-3.498 ; 12.148,4.498 19.152,4.498 cw(c19.152,3.498) 20.152,3.498 20.152,-3.502 ; 12.152,-4.502 cw(c12.152,-3.502) 11.152,-3.502 11.152,3.502 cw(c12.152,3.502) 12.152,4.502 ; 43.348,-4.498 50.352,-4.498 ccw(c50.352,-3.498) 51.352,-3.498 ; 43.348,4.498 50.352,4.498 cw(c50.352,3.498) 51.352,3.498 51.352,-3.502 ; 43.352,-4.502 cw(c43.352,-3.502) 42.352,-3.502 42.352,3.502 cw(c43.352,3.502) 43.352,4.502 ; 74.648,-4.498 81.652,-4.498 ccw(c81.652,-3.498) 82.652,-3.498 ; 74.648,4.498 81.652,4.498 cw(c81.652,3.498) 82.652,3.498 82.652,-3.502 ; 74.652,-4.502 cw(c74.652,-3.502) 73.652,-3.502 73.652,3.502 cw(c74.652,3.502) 74.652,4.502
3D body: height 12.12, standoff 3.1, extent -84.65,-7.05 84.65,7.05

## LPD8806-3x2-Bended-LigthGuide [mm] "Digital Addressable RGB LED w/ PWM waterproof flexi strip - 3 modules of 2 LEDs"
Keep-Out Layer:
  drawing of 9 lines, arcs and shapes, not listed
Outline keep-out:
  lines w0.1: -81.652,-4.498 -69.148,-4.498 ; -81.652,4.498 -69.148,4.498 ; -81.648,-4.502 cw(c-81.648,-3.502) -82.648,-3.502 -82.648,3.502 cw(c-81.648,3.502) -81.648,4.502 ; -69.148,-4.502 ccw(c-69.148,-3.502) -68.148,-3.502 -68.148,3.502 ; -69.148,4.493 cw(c-69.148,3.493) -68.148,3.493 ; -66.752,-5.998 ccw(c-65.752,-5.998) -65.752,-6.998 -59.246,-6.998 ; -66.75,6.001 cw(c-65.75,6.001) -65.75,7.001 -59.249,7.001 cw(c-59.249,6.001) -58.249,6.001 ; -66.746,-6.003 -66.746,6.005 ; -59.251,-7.002 ccw(c-59.251,-6.002) -58.251,-6.002 -58.251,6.004 ; -56.852,3.493 cw(c-55.852,3.493) -55.852,4.493 -37.848,4.493 cw(c-37.848,3.493) -36.848,3.493 ; -56.852,3.502 -56.852,-3.502 ccw(c-55.852,-3.502) -55.852,-4.502 -37.848,-4.502 ccw(c-37.848,-3.502) -36.848,-3.502 -36.848,3.502 ; -25.652,3.493 cw(c-24.652,3.493) -24.652,4.493 -6.648,4.493 cw(c-6.648,3.493) -5.648,3.493 ; -25.652,3.502 -25.652,-3.502 ccw(c-24.652,-3.502) -24.652,-4.502 -6.648,-4.502 ccw(c-6.648,-3.502) -5.648,-3.502 -5.648,3.502 ; -4.252,-5.997 ccw(c-3.252,-5.997) -3.252,-6.997 3.254,-6.997 ; -4.25,6.002 cw(c-3.25,6.002) -3.25,7.002 3.252,7.001 cw(c3.252,6.001) 4.252,6.001 ; -4.246,-6.003 -4.246,6.005 ; 3.249,-7.002 ccw(c3.249,-6.002) 4.249,-6.002 4.249,6.004 ; 5.648,3.493 cw(c6.648,3.493) 6.648,4.493 24.652,4.493 cw(c24.652,3.493) 25.652,3.493 ; 5.648,3.502 5.648,-3.502 ccw(c6.648,-3.502) 6.648,-4.502 24.652,-4.502 ccw(c24.652,-3.502) 25.652,-3.502 25.652,3.502 ; 36.848,3.493 cw(c37.848,3.493) 37.848,4.493 ; 36.848,3.502 36.848,-3.502 ccw(c37.848,-3.502) 37.848,-4.502 ; 37.848,-4.498 55.857,-4.498 ccw(c55.857,-3.498) 56.857,-3.498 56.857,3.507 ; 37.848,4.498 55.857,4.498 cw(c55.857,3.498) 56.857,3.498 ; 58.248,-5.997 ccw(c59.248,-5.997) 59.248,-6.997 65.754,-6.997 ; 58.25,6.002 cw(c59.25,6.002) 59.25,7.002 65.752,7.001 cw(c65.752,6.001) 66.752,6.001 ; 58.254,-6.003 58.254,6.005 ; 65.749,-7.002 ccw(c65.749,-6.002) 66.749,-6.002 66.749,6.004 ; 68.148,3.493 cw(c69.148,3.493) 69.148,4.493 ; 68.148,3.502 68.148,-3.502 ccw(c69.148,-3.502) 69.148,-4.502 ; 69.148,-4.498 81.652,-4.498 ccw(c81.652,-3.498) 82.652,-3.498 ; 69.148,4.498 81.652,4.498 cw(c81.652,3.498) 82.652,3.498 82.652,-3.502
M-CAD keep-out:
  lines w0.1: -81.652,-4.498 -69.148,-4.498 ; -81.652,4.498 -69.148,4.498 ; -81.648,-4.502 cw(c-81.648,-3.502) -82.648,-3.502 -82.648,3.502 cw(c-81.648,3.502) -81.648,4.502 ; -69.148,-4.502 ccw(c-69.148,-3.502) -68.148,-3.502 -68.148,3.502 ; -69.148,4.493 cw(c-69.148,3.493) -68.148,3.493 ; -66.752,-5.998 ccw(c-65.752,-5.998) -65.752,-6.998 -59.246,-6.998 ; -66.75,6.001 cw(c-65.75,6.001) -65.75,7.001 -59.249,7.001 cw(c-59.249,6.001) -58.249,6.001 ; -66.746,-6.003 -66.746,6.005 ; -59.251,-7.002 ccw(c-59.251,-6.002) -58.251,-6.002 -58.251,6.004 ; -56.852,3.493 cw(c-55.852,3.493) -55.852,4.493 -37.848,4.493 cw(c-37.848,3.493) -36.848,3.493 ; -56.852,3.502 -56.852,-3.502 ccw(c-55.852,-3.502) -55.852,-4.502 -37.848,-4.502 ccw(c-37.848,-3.502) -36.848,-3.502 -36.848,3.502 ; -25.652,3.493 cw(c-24.652,3.493) -24.652,4.493 -6.648,4.493 cw(c-6.648,3.493) -5.648,3.493 ; -25.652,3.502 -25.652,-3.502 ccw(c-24.652,-3.502) -24.652,-4.502 -6.648,-4.502 ccw(c-6.648,-3.502) -5.648,-3.502 -5.648,3.502 ; -4.252,-5.997 ccw(c-3.252,-5.997) -3.252,-6.997 3.254,-6.997 ; -4.25,6.002 cw(c-3.25,6.002) -3.25,7.002 3.252,7.001 cw(c3.252,6.001) 4.252,6.001 ; -4.246,-6.003 -4.246,6.005 ; 3.249,-7.002 ccw(c3.249,-6.002) 4.249,-6.002 4.249,6.004 ; 5.648,3.493 cw(c6.648,3.493) 6.648,4.493 24.652,4.493 cw(c24.652,3.493) 25.652,3.493 ; 5.648,3.502 5.648,-3.502 ccw(c6.648,-3.502) 6.648,-4.502 24.652,-4.502 ccw(c24.652,-3.502) 25.652,-3.502 25.652,3.502 ; 36.848,3.493 cw(c37.848,3.493) 37.848,4.493 ; 36.848,3.502 36.848,-3.502 ccw(c37.848,-3.502) 37.848,-4.502 ; 37.848,-4.498 55.857,-4.498 ccw(c55.857,-3.498) 56.857,-3.498 56.857,3.507 ; 37.848,4.498 55.857,4.498 cw(c55.857,3.498) 56.857,3.498 ; 58.248,-5.997 ccw(c59.248,-5.997) 59.248,-6.997 65.754,-6.997 ; 58.25,6.002 cw(c59.25,6.002) 59.25,7.002 65.752,7.001 cw(c65.752,6.001) 66.752,6.001 ; 58.254,-6.003 58.254,6.005 ; 65.749,-7.002 ccw(c65.749,-6.002) 66.749,-6.002 66.749,6.004 ; 68.148,3.493 cw(c69.148,3.493) 69.148,4.493 ; 68.148,3.502 68.148,-3.502 ccw(c69.148,-3.502) 69.148,-4.502 ; 69.148,-4.498 81.652,-4.498 ccw(c81.652,-3.498) 82.652,-3.498 ; 69.148,4.498 81.652,4.498 cw(c81.652,3.498) 82.652,3.498 82.652,-3.502
Notes:
  lines w1: -80,-15 -80,12.5 ; -77.5,-15 -77.5,12.5
Notes keep-out:
  lines w0.1: -74.648,-4.502 ccw(c-74.648,-3.502) -73.648,-3.502 -73.648,3.498 ; -74.648,4.493 cw(c-74.648,3.493) -73.648,3.493 ; -50.348,-4.502 cw(c-50.348,-3.502) -51.348,-3.502 -51.348,3.502 cw(c-50.348,3.502) -50.348,4.502 ; -43.348,-4.498 ccw(c-43.348,-3.498) -42.348,-3.498 ; -43.348,4.498 cw(c-43.348,3.498) -42.348,3.498 -42.348,-3.502 ; -19.148,-4.502 cw(c-19.148,-3.502) -20.148,-3.502 -20.148,3.502 cw(c-19.148,3.502) -19.148,4.502 ; -12.148,-4.498 ccw(c-12.148,-3.498) -11.148,-3.498 ; -12.148,4.498 cw(c-12.148,3.498) -11.148,3.498 -11.148,-3.502 ; 12.152,-4.502 cw(c12.152,-3.502) 11.152,-3.502 11.152,3.502 cw(c12.152,3.502) 12.152,4.502 ; 19.152,-4.498 ccw(c19.152,-3.498) 20.152,-3.498 ; 19.152,4.498 cw(c19.152,3.498) 20.152,3.498 20.152,-3.502 ; 43.352,-4.502 cw(c43.352,-3.502) 42.352,-3.502 42.352,3.502 cw(c43.352,3.502) 43.352,4.502 ; 50.352,-4.498 ccw(c50.352,-3.498) 51.352,-3.498 ; 50.352,4.498 cw(c50.352,3.498) 51.352,3.498 51.352,-3.502 ; 74.652,-4.502 cw(c74.652,-3.502) 73.652,-3.502 73.652,3.502 cw(c74.652,3.502) 74.652,4.502
TopCourtyard:
  lines w0.1: -2.5,0 0,0 ; 0,-2.5 0,0 ; 0,2.5 0,0 ; 2.5,0 0,0
Multi-Layer keep-out:
  lines w2: -81.652,-4.498 -69.148,-4.498 ; -81.652,4.498 -69.148,4.498 ; -81.648,-4.502 cw(c-81.648,-3.502) -82.648,-3.502 -82.648,3.502 cw(c-81.648,3.502) -81.648,4.502 ; -69.148,-4.502 ccw(c-69.148,-3.502) -68.148,-3.502 -68.148,3.502 ; -69.148,4.493 cw(c-69.148,3.493) -68.148,3.493 ; -66.752,-5.998 ccw(c-65.752,-5.998) -65.752,-6.998 -59.246,-6.998 ; -66.75,6.001 cw(c-65.75,6.001) -65.75,7.001 -59.249,7.001 cw(c-59.249,6.001) -58.249,6.001 ; -66.746,-6.003 -66.746,6.005 ; -59.251,-7.002 ccw(c-59.251,-6.002) -58.251,-6.002 -58.251,6.004 ; -56.852,3.493 cw(c-55.852,3.493) -55.852,4.493 -37.848,4.493 cw(c-37.848,3.493) -36.848,3.493 ; -56.852,3.502 -56.852,-3.502 ccw(c-55.852,-3.502) -55.852,-4.502 -37.848,-4.502 ccw(c-37.848,-3.502) -36.848,-3.502 -36.848,3.502 ; -25.652,3.493 cw(c-24.652,3.493) -24.652,4.493 -6.648,4.493 cw(c-6.648,3.493) -5.648,3.493 ; -25.652,3.502 -25.652,-3.502 ccw(c-24.652,-3.502) -24.652,-4.502 -6.648,-4.502 ccw(c-6.648,-3.502) -5.648,-3.502 -5.648,3.502 ; -4.252,-5.997 ccw(c-3.252,-5.997) -3.252,-6.997 3.254,-6.997 ; -4.25,6.002 cw(c-3.25,6.002) -3.25,7.002 3.252,7.001 cw(c3.252,6.001) 4.252,6.001 ; -4.246,-6.003 -4.246,6.005 ; 3.249,-7.002 ccw(c3.249,-6.002) 4.249,-6.002 4.249,6.004 ; 5.648,3.493 cw(c6.648,3.493) 6.648,4.493 24.652,4.493 cw(c24.652,3.493) 25.652,3.493 ; 5.648,3.502 5.648,-3.502 ccw(c6.648,-3.502) 6.648,-4.502 24.652,-4.502 ccw(c24.652,-3.502) 25.652,-3.502 25.652,3.502 ; 36.848,3.493 cw(c37.848,3.493) 37.848,4.493 ; 36.848,3.502 36.848,-3.502 ccw(c37.848,-3.502) 37.848,-4.502 ; 37.848,-4.498 55.857,-4.498 ccw(c55.857,-3.498) 56.857,-3.498 56.857,3.507 ; 37.848,4.498 55.857,4.498 cw(c55.857,3.498) 56.857,3.498 ; 58.248,-5.997 ccw(c59.248,-5.997) 59.248,-6.997 65.754,-6.997 ; 58.25,6.002 cw(c59.25,6.002) 59.25,7.002 65.752,7.001 cw(c65.752,6.001) 66.752,6.001 ; 58.254,-6.003 58.254,6.005 ; 65.749,-7.002 ccw(c65.749,-6.002) 66.749,-6.002 66.749,6.004 ; 68.148,3.493 cw(c69.148,3.493) 69.148,4.493 ; 68.148,3.502 68.148,-3.502 ccw(c69.148,-3.502) 69.148,-4.502 ; 69.148,-4.498 81.652,-4.498 ccw(c81.652,-3.498) 82.652,-3.498 ; 69.148,4.498 81.652,4.498 cw(c81.652,3.498) 82.652,3.498 82.652,-3.502
3D body: height 7.12, standoff -1.9, extent -84.65,-7.05 84.65,7.05

## LPD8806-3x2-Bended-PCB [mm] "Digital Addressable RGB LED w/ PWM waterproof flexi strip - 3 modules of 2 LEDs"
pads (8):
  rect 5.5x2.5 smd: 1(-79.45,5) 2(-79.45,1.67) 3(-79.45,-1.67) 4(-79.45,-5) 5(79.45,-5) 6(79.45,-1.67) 7(79.45,1.67) 8(79.45,5)
Top Overlay:
  lines w0.2: -46.812,-2.45 -46.812,2.45 46.812,2.45 45.438,6.5 55.762,0 45.438,-6.5 46.812,-2.45 -46.812,-2.45
  text "GND" at -73.675,-5.575 h1.52
  text "DI" at -73.675,-2.245 h1.52
  text "CI" at -73.675,1.095 h1.52
  text "+5V" at -73.675,4.425 h1.52
  text "+5V" at 70.45,4.45 h1.52
  text "CO" at 70.45,1.12 h1.52
  text "DO" at 70.45,-2.22 h1.52
  text "GND" at 70.45,-5.55 h1.52
TopCourtyard:
  lines w0.1: -2.5,0 0,0 ; 0,-2.5 0,0 ; 0,2.5 0,0 ; 2.5,0 0,0
3D body: height 0.5, standoff -8.52, extent -84.65,-7.05 84.65,7.05